# Altium schematic symbol library ULN2004ADR.SchLib: 1 symbol
Pins are listed as number, name and electrical type; pins without a type are passive.

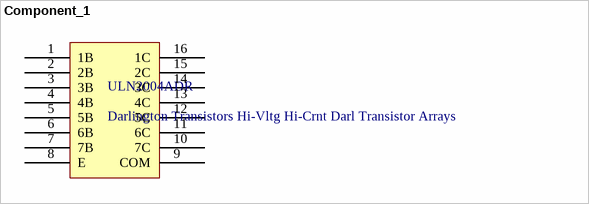
[diagram p0: symbol Component_1]

## Component_1
designator ULN2004ADR, comment Darlington Transistors Hi-Vltg Hi-Crnt Darl Transistor Arrays
footprint ULN2004ADR (Darlington Transistors Hi-Vltg Hi-Crnt Darl Transistor Arrays)
pins: 1 1B, 2 2B, 3 3B, 4 4B, 5 5B, 6 6B, 7 7B, 8 E, 9 COM, 10 7C, 11 6C, 12 5C, 13 4C, 14 3C, 15 2C, 16 1C